# Altium schematic symbol library TPS3899.Schlib: 1 symbol
Pins are listed as number, name and electrical type; pins without a type are passive.

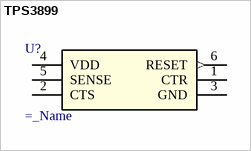
[diagram p0: symbol TPS3899]

## TPS3899
designator U?  (value not drawn)
=description; Value: =_Name
pins: 1 CTR, 2 CTS, 3 GND (power), 4 VDD (power), 5 SENSE, 6 RESET (out)